# EAGLE library part U02-BFD3111B0-009 (library BluePillF4)
Mid mount PCB SMT Micro USB Type B Female Socket Solder Jack 5 Pin 4 legs
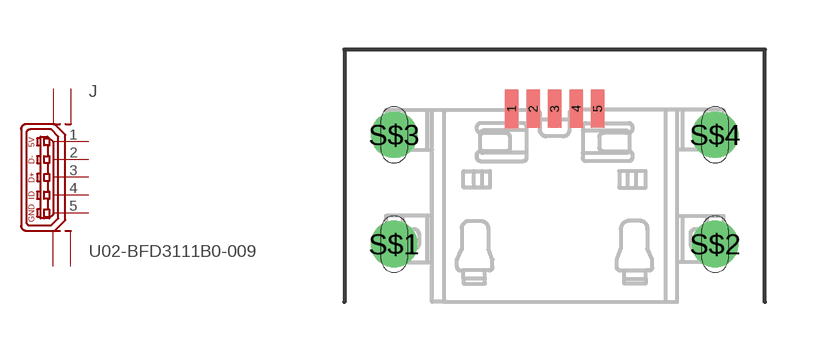
[diagram p8: symbol with the pads of U02-BFD3111B0-009; footprint U02-BFD3111B0-009]

Designator prefix J

## U02-BFD3111B0-009  [U02-BFD3111B0-009]
1  1  pas
2  2  pas
3  3  pas
4  4  pas
5  5  pas
S$1  M0  pas
S$2  M1  pas
S$3  M2  pas
S$4  M3  pas

## Footprint U02-BFD3111B0-009 (pad centres in mm)
Mid mount PCB SMT Micro USB Type B Female Socket Solder Jack 5 Pin 4 legs
smd 0.4 x 1.15: 1 -1.3,3.93; 2 -0.65,3.93; 3 0,3.93; 4 0.65,3.93; 5 1.3,3.93
drill 0.8 pad 1.4: S$1 -4.85,-0.155; S$2 4.85,-0.155; S$3 -4.85,3.145; S$4 4.85,3.145